# Altium footprint library VARC3216X102N.PcbLib: 2 footprints
Each footprint in its own frame and in the unit in brackets; x right, y up, seen from the top. Pads: shape width x height; smd on the part's side, far side on the other; paste and mask are expansions set on the pad; w line width, h text height; cw(c..) or ccw(c..) is an arc to the next point about the centre after c.
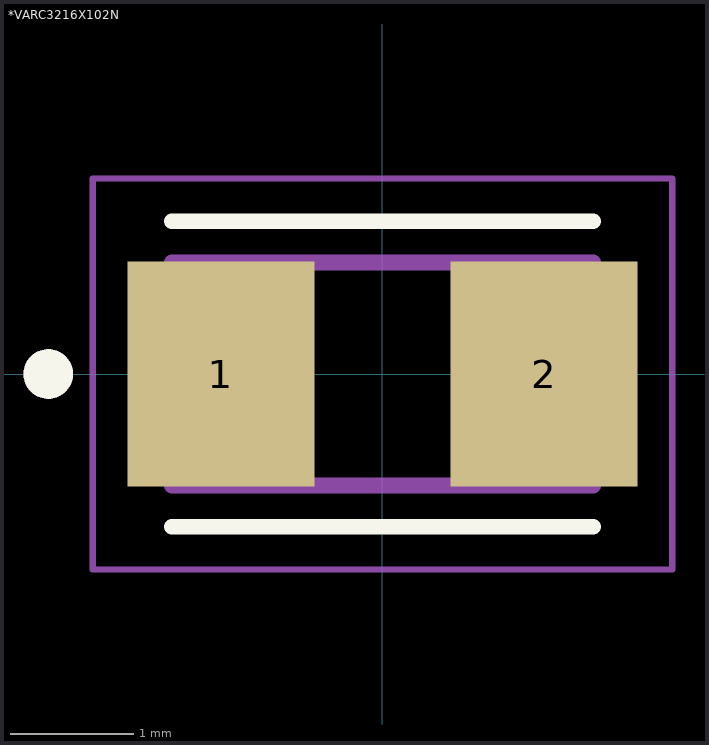
[diagram p0: the footprints below, top view; thin cyan lines are the x and y axes]

## *VARC3216X102N [mm]
pads (2):
  rect 1.51x1.82 smd: 1(-1.305,0) 2(1.305,0)
Top Overlay:
  circle w0.2: c-2.7,0 r0.1
  lines w0.127: -1.7,-1.234 1.7,-1.234 ; -1.7,1.234 1.7,1.234
Mechanical 4:
  circle w0.2: c-2.7,0 r0.1
  circle w0.2: c-2.7,0 r0.1
  lines w0.127: -1.7,-0.9 1.7,-0.9 ; -1.7,-0.9 -1.7,0.9 ; -1.7,-0.9 1.7,-0.9 ; -1.7,-0.9 -1.7,0.9 ; -1.7,0.9 1.7,0.9 ; -1.7,0.9 1.7,0.9 ; 1.7,-0.9 1.7,0.9 ; 1.7,-0.9 1.7,0.9
Mechanical 16:
  lines w0.05: -2.34,-1.58 -2.34,1.58 2.34,1.58 2.34,-1.58 -2.34,-1.58

## PCBComponent_1 [mm]